# Altium schematic symbol library Digital Isolator.SchLib: 29 symbols
Pins are listed as number, name and electrical type; pins without a type are passive.

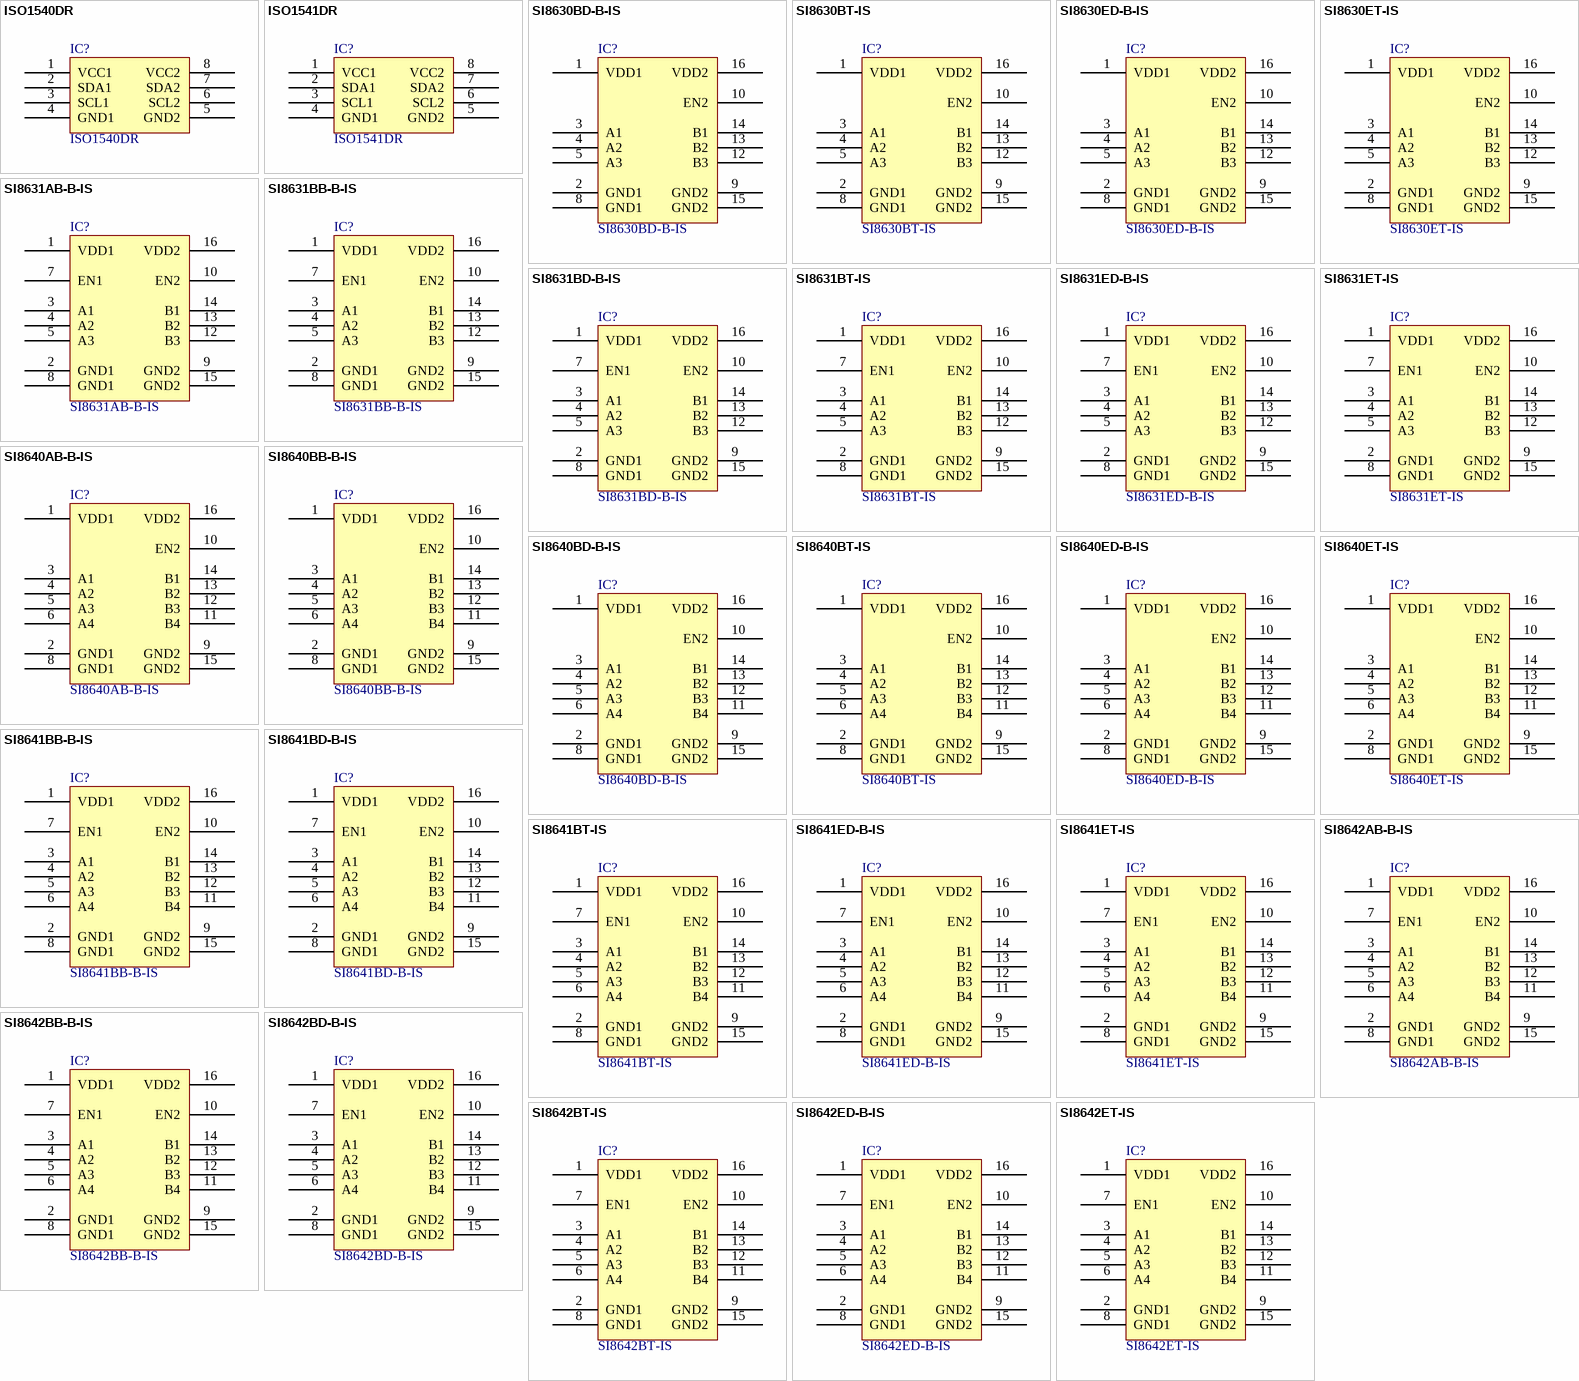
[diagram p0: symbols ISO1540DR to SI8642ET-IS]

## ISO1540DR
designator IC?
DGTL ISO 2.5KV 2CH I2C 8SOIC; Manufacturer: Texas Instruments; Isolated Power: No; Number of Channels: 2; Inputs - Side 1/Side2: 2/2; Channel Type: Bidirectional; Voltage - Isolation: 2500Vrms; Common Mode Transient Immunity (Min): 25kV/us; Data Rate: 1Mbps; Pulse Width Distortion (Max): 80ns, 21ns; Voltage - Supply: 3 V ~ 5.5 V; Part Number: ISO1540DR; PartId: 10912; Supplier 1: Digi-Key; Supplier Part Number 1: 296-34871-1-ND; ComponentLink1Description: Datasheet; ComponentLink1URL: http://www.ti.com/lit/ds/symlink/iso1540.pdf; ComponentLink2Description: Digi-Key Listing; ComponentLink2URL: http://www.digikey.ca/product-detail/en/texas-instruments/ISO1540DR/296-34871-1-ND/3587214; Price: 6.85; Type: IC; Device Package: 8-SOIC (0.154", 3.90mm Width); Operating Temperature: -40C ~ 125C; Technology: Capacitive Coupling; Propagation Delay tpLH/tpHL (Max): -; Rise / Fall Time (Typ): -
footprint TI SOIC-8 D
pins: 1 VCC1, 2 SDA1, 3 SCL1, 4 GND1, 5 GND2, 6 SCL2, 7 SDA2, 8 VCC2

## ISO1541DR
designator IC?
DGTL ISO 2.5KV 2CH I2C 8SOIC; Manufacturer: Texas Instruments; Isolated Power: No; Number of Channels: 2; Inputs - Side 1/Side2: 2/1; Channel Type: Bidirectional, Unidirectional; Voltage - Isolation: 2500Vrms; Common Mode Transient Immunity (Min): 25kV/us; Data Rate: 1Mbps; Pulse Width Distortion (Max): 80ns, 21ns; Voltage - Supply: 3 V ~ 5.5 V; Part Number: ISO1541DR; PartId: 10913; Supplier 1: Digi-Key; Supplier Part Number 1: 296-34872-1-ND; ComponentLink1Description: Datasheet; ComponentLink1URL: http://www.ti.com/lit/ds/symlink/iso1541.pdf; ComponentLink2Description: Digi-Key Listing; ComponentLink2URL: http://www.digikey.ca/product-detail/en/texas-instruments/ISO1541DR/296-34872-1-ND/3587215; Price: 6.17; Type: IC; Device Package: 8-SOIC (0.154", 3.90mm Width); Operating Temperature: -40C ~ 125C; Technology: Capacitive Coupling; Propagation Delay tpLH/tpHL (Max): -; Rise / Fall Time (Typ): -
footprint TI SOIC-8 D
pins: 1 VCC1, 2 SDA1, 3 SCL1, 4 GND1, 5 GND2, 6 SCL2, 7 SDA2, 8 VCC2

## SI8630BD-B-IS
designator IC?
DGTL ISO 5KV 3CH GEN PURP 16SOIC; Manufacturer: Silicon Labs; Isolated Power: No; Number of Channels: 3; Inputs - Side 1/Side2: 3/0; Channel Type: Unidirectional; Voltage - Isolation: 5000Vrms; Common Mode Transient Immunity (Min): 35kV/us; Data Rate: 150Mbps; Propagation Delay tpLH/tpHL (Max): 13ns, 13ns; Pulse Width Distortion (Max): 4.5ns; Rise / Fall Time (Typ): 2.5ns, 2.5ns; Voltage - Supply: 2.5 V ~ 5.5 V; Part Number: SI8630BD-B-IS; PartId: 14392; Supplier 1: Digi-Key; Supplier Part Number 1: 336-2073-5-ND; ComponentLink1Description: Datasheet; ComponentLink1URL: http://www.silabs.com/Support%20Documents/TechnicalDocs/Si863x.pdf; ComponentLink2Description: Digi-Key Listing; ComponentLink2URL: https://www.digikey.com/product-detail/en/silicon-labs/SI8630BD-B-IS/336-2073-5-ND/2623321; Price: 4.06; Type: General Purpose; Device Package: 16-SOIC (0.295", 7.50mm Width); Operating Temperature: -40C ~ 125C; Technology: Capacitive Coupling
footprint SI LABS SOIC-16 WIDE
pins: 1 VDD1, 2 GND1, 3 A1, 4 A2, 5 A3, 8 GND1, 9 GND2, 10 EN2, 12 B3, 13 B2, 14 B1, 15 GND2, 16 VDD2

## SI8630BT-IS
designator IC?
DGTL ISO 5KV 3CH GEN PURP 16SOIC; Manufacturer: Silicon Labs; Isolated Power: No; Number of Channels: 3; Inputs - Side 1/Side2: 3/0; Channel Type: Unidirectional; Voltage - Isolation: 5000Vrms; Common Mode Transient Immunity (Min): 60kV/us; Data Rate: 150Mbps; Propagation Delay tpLH/tpHL (Max): 13ns, 13ns; Pulse Width Distortion (Max): 4.5ns; Rise / Fall Time (Typ): 2.5ns, 2.5ns; Voltage - Supply: 2.5 V ~ 5.5 V; Part Number: SI8630BT-IS; PartId: 14393; Supplier 1: Digi-Key; Supplier Part Number 1: 336-3418-5-ND; ComponentLink1Description: Datasheet; ComponentLink1URL: http://www.silabs.com/Support%20Documents/TechnicalDocs/Si863x.pdf; ComponentLink2Description: Digi-Key Listing; ComponentLink2URL: https://www.digikey.com/product-detail/en/silicon-labs/SI8630BT-IS/336-3418-5-ND/5604305; Price: 4.34; Type: General Purpose; Device Package: 16-SOIC (0.295", 7.50mm Width); Operating Temperature: -40C ~ 125C; Technology: Capacitive Coupling
footprint SI LABS SOIC-16 WIDE
pins: 1 VDD1, 2 GND1, 3 A1, 4 A2, 5 A3, 8 GND1, 9 GND2, 10 EN2, 12 B3, 13 B2, 14 B1, 15 GND2, 16 VDD2

## SI8630ED-B-IS
designator IC?
DGTL ISO 5KV 3CH GEN PURP 16SOIC; Manufacturer: Silicon Labs; Isolated Power: No; Number of Channels: 3; Inputs - Side 1/Side2: 3/0; Channel Type: Unidirectional; Voltage - Isolation: 5000Vrms; Common Mode Transient Immunity (Min): 35kV/us; Data Rate: 150Mbps; Propagation Delay tpLH/tpHL (Max): 13ns, 13ns; Pulse Width Distortion (Max): 4.5ns; Rise / Fall Time (Typ): 2.5ns, 2.5ns; Voltage - Supply: 2.5 V ~ 5.5 V; Part Number: SI8630ED-B-IS; PartId: 14394; Supplier 1: Digi-Key; Supplier Part Number 1: 336-2075-5-ND; ComponentLink1Description: Datasheet; ComponentLink1URL: http://www.silabs.com/Support%20Documents/TechnicalDocs/Si863x.pdf; ComponentLink2Description: Digi-Key Listing; ComponentLink2URL: https://www.digikey.com/product-detail/en/silicon-labs/SI8630ED-B-IS/336-2075-5-ND/2623323; Price: 4.06; Type: General Purpose; Device Package: 16-SOIC (0.295", 7.50mm Width); Operating Temperature: -40C ~ 125C; Technology: Capacitive Coupling
footprint SI LABS SOIC-16 WIDE
pins: 1 VDD1, 2 GND1, 3 A1, 4 A2, 5 A3, 8 GND1, 9 GND2, 10 EN2, 12 B3, 13 B2, 14 B1, 15 GND2, 16 VDD2

## SI8630ET-IS
designator IC?
DGTL ISO 5KV 3CH GEN PURP 16SOIC; Manufacturer: Silicon Labs; Isolated Power: No; Number of Channels: 3; Inputs - Side 1/Side2: 3/0; Channel Type: Unidirectional; Voltage - Isolation: 5000Vrms; Common Mode Transient Immunity (Min): 60kV/us; Data Rate: 150Mbps; Propagation Delay tpLH/tpHL (Max): 13ns, 13ns; Pulse Width Distortion (Max): 4.5ns; Rise / Fall Time (Typ): 2.5ns, 2.5ns; Voltage - Supply: 2.5 V ~ 5.5 V; Part Number: SI8630ET-IS; PartId: 14395; Supplier 1: Digi-Key; Supplier Part Number 1: 336-3419-5-ND; ComponentLink1Description: Datasheet; ComponentLink1URL: http://www.silabs.com/Support%20Documents/TechnicalDocs/Si863x.pdf; ComponentLink2Description: Digi-Key Listing; ComponentLink2URL: https://www.digikey.com/product-detail/en/silicon-labs/SI8630ET-IS/336-3419-5-ND/5604306; Price: 4.34; Type: General Purpose; Device Package: 16-SOIC (0.295", 7.50mm Width); Operating Temperature: -40C ~ 125C; Technology: Capacitive Coupling
footprint SI LABS SOIC-16 WIDE
pins: 1 VDD1, 2 GND1, 3 A1, 4 A2, 5 A3, 8 GND1, 9 GND2, 10 EN2, 12 B3, 13 B2, 14 B1, 15 GND2, 16 VDD2

## SI8631AB-B-IS
designator IC?
DGTL ISO 2.5KV GEN PURP 16SOIC; Manufacturer: Silicon Labs; Isolated Power: No; Number of Channels: 3; Inputs - Side 1/Side2: 2/1; Channel Type: Unidirectional; Voltage - Isolation: 2500Vrms; Common Mode Transient Immunity (Min): 35kV/us; Data Rate: 1Mbps; Propagation Delay tpLH/tpHL (Max): 35ns, 35ns; Pulse Width Distortion (Max): 25ns; Rise / Fall Time (Typ): 2.5ns, 2.5ns; Voltage - Supply: 2.5 V ~ 5.5 V; Part Number: SI8631AB-B-IS; PartId: 14396; Supplier 1: Digi-Key; Supplier Part Number 1: SI8631AB-B-IS-ND; ComponentLink1Description: Datasheet; ComponentLink1URL: http://www.silabs.com/Support%20Documents/TechnicalDocs/Si86xx.pdf; ComponentLink2Description: Digi-Key Listing; ComponentLink2URL: https://www.digikey.com/product-detail/en/silicon-labs/SI8631AB-B-IS/SI8631AB-B-IS-ND/4576736; Price: 2.11; Type: General Purpose; Device Package: 16-SOIC (0.295", 7.50mm Width); Operating Temperature: -40C ~ 125C; Technology: Capacitive Coupling
footprint SI LABS SOIC-16 WIDE
pins: 1 VDD1, 2 GND1, 3 A1, 4 A2, 5 A3, 7 EN1, 8 GND1, 9 GND2, 10 EN2, 12 B3, 13 B2, 14 B1, 15 GND2, 16 VDD2

## SI8631BB-B-IS
designator IC?
DGTL ISO 2.5KV GEN PURP 16SOIC; Manufacturer: Silicon Labs; Isolated Power: No; Number of Channels: 3; Inputs - Side 1/Side2: 2/1; Channel Type: Unidirectional; Voltage - Isolation: 2500Vrms; Common Mode Transient Immunity (Min): 35kV/us; Data Rate: 150Mbps; Propagation Delay tpLH/tpHL (Max): 13ns, 13ns; Pulse Width Distortion (Max): 4.5ns; Rise / Fall Time (Typ): 2.5ns, 2.5ns; Voltage - Supply: 2.5 V ~ 5.5 V; Part Number: SI8631BB-B-IS; PartId: 14397; Supplier 1: Digi-Key; Supplier Part Number 1: 336-2571-ND; ComponentLink1Description: Datasheet; ComponentLink1URL: http://www.silabs.com/Support%20Documents/TechnicalDocs/Si863x.pdf; ComponentLink2Description: Digi-Key Listing; ComponentLink2URL: https://www.digikey.com/product-detail/en/silicon-labs/SI8631BB-B-IS/336-2571-ND/4379909; Price: 3.17; Type: General Purpose; Device Package: 16-SOIC (0.295", 7.50mm Width); Operating Temperature: -40C ~ 125C; Technology: Capacitive Coupling
footprint SI LABS SOIC-16 WIDE
pins: 1 VDD1, 2 GND1, 3 A1, 4 A2, 5 A3, 7 EN1, 8 GND1, 9 GND2, 10 EN2, 12 B3, 13 B2, 14 B1, 15 GND2, 16 VDD2

## SI8631BD-B-IS
designator IC?
DGTL ISO 5KV 3CH GEN PURP 16SOIC; Manufacturer: Silicon Labs; Isolated Power: No; Number of Channels: 3; Inputs - Side 1/Side2: 2/1; Channel Type: Unidirectional; Voltage - Isolation: 5000Vrms; Common Mode Transient Immunity (Min): 35kV/us; Data Rate: 150Mbps; Propagation Delay tpLH/tpHL (Max): 13ns, 13ns; Pulse Width Distortion (Max): 4.5ns; Rise / Fall Time (Typ): 2.5ns, 2.5ns; Voltage - Supply: 2.5 V ~ 5.5 V; Part Number: SI8631BD-B-IS; PartId: 14398; Supplier 1: Digi-Key; Supplier Part Number 1: 336-2077-5-ND; ComponentLink1Description: Datasheet; ComponentLink1URL: http://www.silabs.com/Support%20Documents/TechnicalDocs/Si863x.pdf; ComponentLink2Description: Digi-Key Listing; ComponentLink2URL: https://www.digikey.com/product-detail/en/silicon-labs/SI8631BD-B-IS/336-2077-5-ND/2623325; Price: 4.06; Type: General Purpose; Device Package: 16-SOIC (0.295", 7.50mm Width); Operating Temperature: -40C ~ 125C; Technology: Capacitive Coupling
footprint SI LABS SOIC-16 WIDE
pins: 1 VDD1, 2 GND1, 3 A1, 4 A2, 5 A3, 7 EN1, 8 GND1, 9 GND2, 10 EN2, 12 B3, 13 B2, 14 B1, 15 GND2, 16 VDD2

## SI8631BT-IS
designator IC?
DGTL ISO 5KV 3CH GEN PURP 16SOIC; Manufacturer: Silicon Labs; Isolated Power: No; Number of Channels: 3; Inputs - Side 1/Side2: 2/1; Channel Type: Unidirectional; Voltage - Isolation: 5000Vrms; Common Mode Transient Immunity (Min): 60kV/us; Data Rate: 150Mbps; Propagation Delay tpLH/tpHL (Max): 13ns, 13ns; Pulse Width Distortion (Max): 4.5ns; Rise / Fall Time (Typ): 2.5ns, 2.5ns; Voltage - Supply: 2.5 V ~ 5.5 V; Part Number: SI8631BT-IS; PartId: 14399; Supplier 1: Digi-Key; Supplier Part Number 1: 336-3420-5-ND; ComponentLink1Description: Datasheet; ComponentLink1URL: http://www.silabs.com/Support%20Documents/TechnicalDocs/Si863x.pdf; ComponentLink2Description: Digi-Key Listing; ComponentLink2URL: https://www.digikey.com/product-detail/en/silicon-labs/SI8631BT-IS/336-3420-5-ND/5604307; Price: 4.34; Type: General Purpose; Device Package: 16-SOIC (0.295", 7.50mm Width); Operating Temperature: -40C ~ 125C; Technology: Capacitive Coupling
footprint SI LABS SOIC-16 WIDE
pins: 1 VDD1, 2 GND1, 3 A1, 4 A2, 5 A3, 7 EN1, 8 GND1, 9 GND2, 10 EN2, 12 B3, 13 B2, 14 B1, 15 GND2, 16 VDD2

## SI8631ED-B-IS
designator IC?
DGTL ISO 5KV 3CH GEN PURP 16SOIC; Manufacturer: Silicon Labs; Isolated Power: No; Number of Channels: 3; Inputs - Side 1/Side2: 2/1; Channel Type: Unidirectional; Voltage - Isolation: 5000Vrms; Common Mode Transient Immunity (Min): 35kV/us; Data Rate: 150Mbps; Propagation Delay tpLH/tpHL (Max): 13ns, 13ns; Pulse Width Distortion (Max): 4.5ns; Rise / Fall Time (Typ): 2.5ns, 2.5ns; Voltage - Supply: 2.5 V ~ 5.5 V; Part Number: SI8631ED-B-IS; PartId: 14400; Supplier 1: Digi-Key; Supplier Part Number 1: 336-2079-5-ND; ComponentLink1Description: Datasheet; ComponentLink1URL: http://www.silabs.com/Support%20Documents/TechnicalDocs/Si863x.pdf; ComponentLink2Description: Digi-Key Listing; ComponentLink2URL: https://www.digikey.com/product-detail/en/silicon-labs/SI8631ED-B-IS/336-2079-5-ND/2623327; Price: 4.06; Type: General Purpose; Device Package: 16-SOIC (0.295", 7.50mm Width); Operating Temperature: -40C ~ 125C; Technology: Capacitive Coupling
footprint SI LABS SOIC-16 WIDE
pins: 1 VDD1, 2 GND1, 3 A1, 4 A2, 5 A3, 7 EN1, 8 GND1, 9 GND2, 10 EN2, 12 B3, 13 B2, 14 B1, 15 GND2, 16 VDD2

## SI8631ET-IS
designator IC?
DGTL ISO 5KV 3CH GEN PURP 16SOIC; Manufacturer: Silicon Labs; Isolated Power: No; Number of Channels: 3; Inputs - Side 1/Side2: 2/1; Channel Type: Unidirectional; Voltage - Isolation: 5000Vrms; Common Mode Transient Immunity (Min): 60kV/us; Data Rate: 150Mbps; Propagation Delay tpLH/tpHL (Max): 13ns, 13ns; Pulse Width Distortion (Max): 4.5ns; Rise / Fall Time (Typ): 2.5ns, 2.5ns; Voltage - Supply: 2.5 V ~ 5.5 V; Part Number: SI8631ET-IS; PartId: 14401; Supplier 1: Digi-Key; Supplier Part Number 1: 336-3421-5-ND; ComponentLink1Description: Datasheet; ComponentLink1URL: http://www.silabs.com/Support%20Documents/TechnicalDocs/Si863x.pdf; ComponentLink2Description: Digi-Key Listing; ComponentLink2URL: https://www.digikey.com/product-detail/en/silicon-labs/SI8631ET-IS/336-3421-5-ND/5604308; Price: 4.34; Type: General Purpose; Device Package: 16-SOIC (0.295", 7.50mm Width); Operating Temperature: -40C ~ 125C; Technology: Capacitive Coupling
footprint SI LABS SOIC-16 WIDE
pins: 1 VDD1, 2 GND1, 3 A1, 4 A2, 5 A3, 7 EN1, 8 GND1, 9 GND2, 10 EN2, 12 B3, 13 B2, 14 B1, 15 GND2, 16 VDD2

## SI8640AB-B-IS
designator IC?
DGTL ISO 2.5KV GEN PURP 16SOIC; Manufacturer: Silicon Labs; Isolated Power: No; Number of Channels: 4; Inputs - Side 1/Side2: 4/0; Channel Type: Unidirectional; Voltage - Isolation: 2500Vrms; Common Mode Transient Immunity (Min): 35kV/us; Data Rate: 1Mbps; Propagation Delay tpLH/tpHL (Max): 35ns, 35ns; Pulse Width Distortion (Max): 25ns; Rise / Fall Time (Typ): 2.5ns, 2.5ns; Voltage - Supply: 2.5 V ~ 5.5 V; Part Number: SI8640AB-B-IS; PartId: 14402; Supplier 1: Digi-Key; Supplier Part Number 1: SI8640AB-B-IS-ND; ComponentLink1Description: Datasheet; ComponentLink1URL: http://www.silabs.com/Support%20Documents/TechnicalDocs/Si86xx.pdf; ComponentLink2Description: Digi-Key Listing; ComponentLink2URL: https://www.digikey.com/product-detail/en/silicon-labs/SI8640AB-B-IS/SI8640AB-B-IS-ND/4576739; Price: 2.62; Type: General Purpose; Device Package: 16-SOIC (0.295", 7.50mm Width); Operating Temperature: -40C ~ 125C; Technology: Capacitive Coupling
footprint SI LABS SOIC-16 WIDE
pins: 1 VDD1, 2 GND1, 3 A1, 4 A2, 5 A3, 6 A4, 8 GND1, 9 GND2, 10 EN2, 11 B4, 12 B3, 13 B2, 14 B1, 15 GND2, 16 VDD2

## SI8640BB-B-IS
designator IC?
DGTL ISO 2.5KV GEN PURP 16SOIC; Manufacturer: Silicon Labs; Isolated Power: No; Number of Channels: 4; Inputs - Side 1/Side2: 4/0; Channel Type: Unidirectional; Voltage - Isolation: 2500Vrms; Common Mode Transient Immunity (Min): 35kV/us; Data Rate: 150Mbps; Propagation Delay tpLH/tpHL (Max): 13ns, 13ns; Pulse Width Distortion (Max): 4.5ns; Rise / Fall Time (Typ): 2.5ns, 2.5ns; Voltage - Supply: 2.5 V ~ 5.5 V; Part Number: SI8640BB-B-IS; PartId: 14403; Supplier 1: Digi-Key; Supplier Part Number 1: SI8640BB-B-IS-ND; ComponentLink1Description: Datasheet; ComponentLink1URL: http://www.silabs.com/Support%20Documents/TechnicalDocs/Si864x.pdf; ComponentLink2Description: Digi-Key Listing; ComponentLink2URL: https://www.digikey.com/product-detail/en/silicon-labs/SI8640BB-B-IS/SI8640BB-B-IS-ND/4576741; Price: 3.81; Type: General Purpose; Device Package: 16-SOIC (0.295", 7.50mm Width); Operating Temperature: -40C ~ 125C; Technology: Capacitive Coupling
footprint SI LABS SOIC-16 WIDE
pins: 1 VDD1, 2 GND1, 3 A1, 4 A2, 5 A3, 6 A4, 8 GND1, 9 GND2, 10 EN2, 11 B4, 12 B3, 13 B2, 14 B1, 15 GND2, 16 VDD2

## SI8640BD-B-IS
designator IC?
DGTL ISO 5KV 4CH GEN PURP 16SOIC; Manufacturer: Silicon Labs; Isolated Power: No; Number of Channels: 4; Inputs - Side 1/Side2: 4/0; Channel Type: Unidirectional; Voltage - Isolation: 5000Vrms; Common Mode Transient Immunity (Min): 35kV/us; Data Rate: 150Mbps; Propagation Delay tpLH/tpHL (Max): 13ns, 13ns; Pulse Width Distortion (Max): 4.5ns; Rise / Fall Time (Typ): 2.5ns, 2.5ns; Voltage - Supply: 2.5 V ~ 5.5 V; Part Number: SI8640BD-B-IS; PartId: 14404; Supplier 1: Digi-Key; Supplier Part Number 1: 336-2083-5-ND; ComponentLink1Description: Datasheet; ComponentLink1URL: http://www.silabs.com/Support%20Documents/TechnicalDocs/Si864x.pdf; ComponentLink2Description: Digi-Key Listing; ComponentLink2URL: https://www.digikey.com/product-detail/en/silicon-labs/SI8640BD-B-IS/336-2083-5-ND/2623331; Price: 5.01; Type: General Purpose; Device Package: 16-SOIC (0.295", 7.50mm Width); Operating Temperature: -40C ~ 125C; Technology: Capacitive Coupling
footprint SI LABS SOIC-16 WIDE
pins: 1 VDD1, 2 GND1, 3 A1, 4 A2, 5 A3, 6 A4, 8 GND1, 9 GND2, 10 EN2, 11 B4, 12 B3, 13 B2, 14 B1, 15 GND2, 16 VDD2

## SI8640BT-IS
designator IC?
DGTL ISO 5KV 4CH GEN PURP 16SOIC; Manufacturer: Silicon Labs; Isolated Power: No; Number of Channels: 4; Inputs - Side 1/Side2: 4/0; Channel Type: Unidirectional; Voltage - Isolation: 5000Vrms; Common Mode Transient Immunity (Min): 60kV/us; Data Rate: 150Mbps; Propagation Delay tpLH/tpHL (Max): 13ns, 13ns; Pulse Width Distortion (Max): 4.5ns; Rise / Fall Time (Typ): 2.5ns, 2.5ns; Voltage - Supply: 2.5 V ~ 5.5 V; Part Number: SI8640BT-IS; PartId: 14405; Supplier 1: Digi-Key; Supplier Part Number 1: 336-3424-5-ND; ComponentLink1Description: Datasheet; ComponentLink1URL: http://www.silabs.com/Support%20Documents/TechnicalDocs/Si864x.pdf; ComponentLink2Description: Digi-Key Listing; ComponentLink2URL: https://www.digikey.com/product-detail/en/silicon-labs/SI8640BT-IS/336-3424-5-ND/5604311; Price: 5.87; Type: General Purpose; Device Package: 16-SOIC (0.295", 7.50mm Width); Operating Temperature: -40C ~ 125C; Technology: Capacitive Coupling
footprint SI LABS SOIC-16 WIDE
pins: 1 VDD1, 2 GND1, 3 A1, 4 A2, 5 A3, 6 A4, 8 GND1, 9 GND2, 10 EN2, 11 B4, 12 B3, 13 B2, 14 B1, 15 GND2, 16 VDD2

## SI8640ED-B-IS
designator IC?
DGTL ISO 5KV 4CH GEN PURP 16SOIC; Manufacturer: Silicon Labs; Isolated Power: No; Number of Channels: 4; Inputs - Side 1/Side2: 4/0; Channel Type: Unidirectional; Voltage - Isolation: 5000Vrms; Common Mode Transient Immunity (Min): 35kV/us; Data Rate: 150Mbps; Propagation Delay tpLH/tpHL (Max): 13ns, 13ns; Pulse Width Distortion (Max): 4.5ns; Rise / Fall Time (Typ): 2.5ns, 2.5ns; Voltage - Supply: 2.5 V ~ 5.5 V; Part Number: SI8640ED-B-IS; PartId: 14406; Supplier 1: Digi-Key; Supplier Part Number 1: 336-2085-5-ND; ComponentLink1Description: Datasheet; ComponentLink1URL: http://www.silabs.com/Support%20Documents/TechnicalDocs/Si864x.pdf; ComponentLink2Description: Digi-Key Listing; ComponentLink2URL: https://www.digikey.com/product-detail/en/silicon-labs/SI8640ED-B-IS/336-2085-5-ND/2623333; Price: 5.01; Type: General Purpose; Device Package: 16-SOIC (0.295", 7.50mm Width); Operating Temperature: -40C ~ 125C; Technology: Capacitive Coupling
footprint SI LABS SOIC-16 WIDE
pins: 1 VDD1, 2 GND1, 3 A1, 4 A2, 5 A3, 6 A4, 8 GND1, 9 GND2, 10 EN2, 11 B4, 12 B3, 13 B2, 14 B1, 15 GND2, 16 VDD2

## SI8640ET-IS
designator IC?
DGTL ISO 5KV 4CH GEN PURP 16SOIC; Manufacturer: Silicon Labs; Isolated Power: No; Number of Channels: 4; Inputs - Side 1/Side2: 4/0; Channel Type: Unidirectional; Voltage - Isolation: 5000Vrms; Common Mode Transient Immunity (Min): 60kV/us; Data Rate: 150Mbps; Propagation Delay tpLH/tpHL (Max): 13ns, 13ns; Pulse Width Distortion (Max): 4.5ns; Rise / Fall Time (Typ): 2.5ns, 2.5ns; Voltage - Supply: 2.5 V ~ 5.5 V; Part Number: SI8640ET-IS; PartId: 14407; Supplier 1: Digi-Key; Supplier Part Number 1: 336-3425-5-ND; ComponentLink1Description: Datasheet; ComponentLink1URL: http://www.silabs.com/Support%20Documents/TechnicalDocs/Si864x.pdf; ComponentLink2Description: Digi-Key Listing; ComponentLink2URL: https://www.digikey.com/product-detail/en/silicon-labs/SI8640ET-IS/336-3425-5-ND/5604312; Price: 5.87; Type: General Purpose; Device Package: 16-SOIC (0.295", 7.50mm Width); Operating Temperature: -40C ~ 125C; Technology: Capacitive Coupling
footprint SI LABS SOIC-16 WIDE
pins: 1 VDD1, 2 GND1, 3 A1, 4 A2, 5 A3, 6 A4, 8 GND1, 9 GND2, 10 EN2, 11 B4, 12 B3, 13 B2, 14 B1, 15 GND2, 16 VDD2

## SI8641BB-B-IS
designator IC?
DGTL ISO 2.5KV GEN PURP 16SOIC; Manufacturer: Silicon Labs; Isolated Power: No; Number of Channels: 4; Inputs - Side 1/Side2: 3/1; Channel Type: Unidirectional; Voltage - Isolation: 2500Vrms; Common Mode Transient Immunity (Min): 35kV/us; Data Rate: 150Mbps; Propagation Delay tpLH/tpHL (Max): 13ns, 13ns; Pulse Width Distortion (Max): 4.5ns; Rise / Fall Time (Typ): 2.5ns, 2.5ns; Voltage - Supply: 2.5 V ~ 5.5 V; Part Number: SI8641BB-B-IS; PartId: 14408; Supplier 1: Digi-Key; Supplier Part Number 1: SI8641BB-B-IS-ND; ComponentLink1Description: Datasheet; ComponentLink1URL: http://www.silabs.com/Support%20Documents/TechnicalDocs/Si864x.pdf; ComponentLink2Description: Digi-Key Listing; ComponentLink2URL: https://www.digikey.com/product-detail/en/silicon-labs/SI8641BB-B-IS/SI8641BB-B-IS-ND/4576743; Price: 3.81; Type: General Purpose; Device Package: 16-SOIC (0.295", 7.50mm Width); Operating Temperature: -40C ~ 125C; Technology: Capacitive Coupling
footprint SI LABS SOIC-16 WIDE
pins: 1 VDD1, 2 GND1, 3 A1, 4 A2, 5 A3, 6 A4, 7 EN1, 8 GND1, 9 GND2, 10 EN2, 11 B4, 12 B3, 13 B2, 14 B1, 15 GND2, 16 VDD2

## SI8641BD-B-IS
designator IC?
DGTL ISO 5KV 4CH GEN PURP 16SOIC; Manufacturer: Silicon Labs; Isolated Power: No; Number of Channels: 4; Inputs - Side 1/Side2: 3/1; Channel Type: Unidirectional; Voltage - Isolation: 5000Vrms; Common Mode Transient Immunity (Min): 35kV/us; Data Rate: 150Mbps; Propagation Delay tpLH/tpHL (Max): 13ns, 13ns; Pulse Width Distortion (Max): 4.5ns; Rise / Fall Time (Typ): 2.5ns, 2.5ns; Voltage - Supply: 2.5 V ~ 5.5 V; Part Number: SI8641BD-B-IS; PartId: 14409; Supplier 1: Digi-Key; Supplier Part Number 1: 336-2088-5-ND; ComponentLink1Description: Datasheet; ComponentLink1URL: http://www.silabs.com/Support%20Documents/TechnicalDocs/Si864x.pdf; ComponentLink2Description: Digi-Key Listing; ComponentLink2URL: https://www.digikey.com/product-detail/en/silicon-labs/SI8641BD-B-IS/336-2088-5-ND/2623336; Price: 5.01; Type: General Purpose; Device Package: 16-SOIC (0.295", 7.50mm Width); Operating Temperature: -40C ~ 125C; Technology: Capacitive Coupling
footprint SI LABS SOIC-16 WIDE
pins: 1 VDD1, 2 GND1, 3 A1, 4 A2, 5 A3, 6 A4, 7 EN1, 8 GND1, 9 GND2, 10 EN2, 11 B4, 12 B3, 13 B2, 14 B1, 15 GND2, 16 VDD2

## SI8641BT-IS
designator IC?
DGTL ISO 5KV 4CH GEN PURP 16SOIC; Manufacturer: Silicon Labs; Isolated Power: No; Number of Channels: 4; Inputs - Side 1/Side2: 3/1; Channel Type: Unidirectional; Voltage - Isolation: 5000Vrms; Common Mode Transient Immunity (Min): 60kV/us; Data Rate: 150Mbps; Propagation Delay tpLH/tpHL (Max): 13ns, 13ns; Pulse Width Distortion (Max): 4.5ns; Rise / Fall Time (Typ): 2.5ns, 2.5ns; Voltage - Supply: 2.5 V ~ 5.5 V; Part Number: SI8641BT-IS; PartId: 14410; Supplier 1: Digi-Key; Supplier Part Number 1: 336-3426-5-ND; ComponentLink1Description: Datasheet; ComponentLink1URL: http://www.silabs.com/Support%20Documents/TechnicalDocs/Si864x.pdf; ComponentLink2Description: Digi-Key Listing; ComponentLink2URL: https://www.digikey.com/product-detail/en/silicon-labs/SI8641BT-IS/336-3426-5-ND/5604313; Price: 5.87; Type: General Purpose; Device Package: 16-SOIC (0.295", 7.50mm Width); Operating Temperature: -40C ~ 125C; Technology: Capacitive Coupling
footprint SI LABS SOIC-16 WIDE
pins: 1 VDD1, 2 GND1, 3 A1, 4 A2, 5 A3, 6 A4, 7 EN1, 8 GND1, 9 GND2, 10 EN2, 11 B4, 12 B3, 13 B2, 14 B1, 15 GND2, 16 VDD2

## SI8641ED-B-IS
designator IC?
DGTL ISO 5KV 4CH GEN PURP 16SOIC; Manufacturer: Silicon Labs; Isolated Power: No; Number of Channels: 4; Inputs - Side 1/Side2: 3/1; Channel Type: Unidirectional; Voltage - Isolation: 5000Vrms; Common Mode Transient Immunity (Min): 35kV/us; Data Rate: 150Mbps; Propagation Delay tpLH/tpHL (Max): 13ns, 13ns; Pulse Width Distortion (Max): 4.5ns; Rise / Fall Time (Typ): 2.5ns, 2.5ns; Voltage - Supply: 2.5 V ~ 5.5 V; Part Number: SI8641ED-B-IS; PartId: 14411; Supplier 1: Digi-Key; Supplier Part Number 1: 336-2090-5-ND; ComponentLink1Description: Datasheet; ComponentLink1URL: http://www.silabs.com/Support%20Documents/TechnicalDocs/Si864x.pdf; ComponentLink2Description: Digi-Key Listing; ComponentLink2URL: https://www.digikey.com/product-detail/en/silicon-labs/SI8641ED-B-IS/336-2090-5-ND/2623338; Price: 5.01; Type: General Purpose; Device Package: 16-SOIC (0.295", 7.50mm Width); Operating Temperature: -40C ~ 125C; Technology: Capacitive Coupling
footprint SI LABS SOIC-16 WIDE
pins: 1 VDD1, 2 GND1, 3 A1, 4 A2, 5 A3, 6 A4, 7 EN1, 8 GND1, 9 GND2, 10 EN2, 11 B4, 12 B3, 13 B2, 14 B1, 15 GND2, 16 VDD2

## SI8641ET-IS
designator IC?
DGTL ISO 5KV 4CH GEN PURP 16SOIC; Manufacturer: Silicon Labs; Isolated Power: No; Number of Channels: 4; Inputs - Side 1/Side2: 3/1; Channel Type: Unidirectional; Voltage - Isolation: 5000Vrms; Common Mode Transient Immunity (Min): 60kV/us; Data Rate: 150Mbps; Propagation Delay tpLH/tpHL (Max): 13ns, 13ns; Pulse Width Distortion (Max): 4.5ns; Rise / Fall Time (Typ): 2.5ns, 2.5ns; Voltage - Supply: 2.5 V ~ 5.5 V; Part Number: SI8641ET-IS; PartId: 14412; Supplier 1: Digi-Key; Supplier Part Number 1: 336-3427-5-ND; ComponentLink1Description: Datasheet; ComponentLink1URL: http://www.silabs.com/Support%20Documents/TechnicalDocs/Si864x.pdf; ComponentLink2Description: Digi-Key Listing; ComponentLink2URL: https://www.digikey.com/product-detail/en/silicon-labs/SI8641ET-IS/336-3427-5-ND/5604314; Price: 5.87; Type: General Purpose; Device Package: 16-SOIC (0.295", 7.50mm Width); Operating Temperature: -40C ~ 125C; Technology: Capacitive Coupling
footprint SI LABS SOIC-16 WIDE
pins: 1 VDD1, 2 GND1, 3 A1, 4 A2, 5 A3, 6 A4, 7 EN1, 8 GND1, 9 GND2, 10 EN2, 11 B4, 12 B3, 13 B2, 14 B1, 15 GND2, 16 VDD2

## SI8642AB-B-IS
designator IC?
DGTL ISO 2.5KV GEN PURP 16SOIC; Manufacturer: Silicon Labs; Isolated Power: No; Number of Channels: 4; Inputs - Side 1/Side2: 2/2; Channel Type: Unidirectional; Voltage - Isolation: 2500Vrms; Common Mode Transient Immunity (Min): 35kV/us; Data Rate: 1Mbps; Propagation Delay tpLH/tpHL (Max): 35ns, 35ns; Pulse Width Distortion (Max): 25ns; Rise / Fall Time (Typ): 2.5ns, 2.5ns; Voltage - Supply: 2.5 V ~ 5.5 V; Part Number: SI8642AB-B-IS; PartId: 14413; Supplier 1: Digi-Key; Supplier Part Number 1: SI8642AB-B-IS-ND; ComponentLink1Description: Datasheet; ComponentLink1URL: http://www.silabs.com/Support%20Documents/TechnicalDocs/Si86xx.pdf; ComponentLink2Description: Digi-Key Listing; ComponentLink2URL: https://www.digikey.com/product-detail/en/silicon-labs/SI8642AB-B-IS/SI8642AB-B-IS-ND/4576744; Price: 2.62; Type: General Purpose; Device Package: 16-SOIC (0.295", 7.50mm Width); Operating Temperature: -40C ~ 125C; Technology: Capacitive Coupling
footprint SI LABS SOIC-16 WIDE
pins: 1 VDD1, 2 GND1, 3 A1, 4 A2, 5 A3, 6 A4, 7 EN1, 8 GND1, 9 GND2, 10 EN2, 11 B4, 12 B3, 13 B2, 14 B1, 15 GND2, 16 VDD2

## SI8642BB-B-IS
designator IC?
DGTL ISO 2.5KV GEN PURP 16SOIC; Manufacturer: Silicon Labs; Isolated Power: No; Number of Channels: 4; Inputs - Side 1/Side2: 2/2; Channel Type: Unidirectional; Voltage - Isolation: 2500Vrms; Common Mode Transient Immunity (Min): 35kV/us; Data Rate: 150Mbps; Propagation Delay tpLH/tpHL (Max): 13ns, 13ns; Pulse Width Distortion (Max): 4.5ns; Rise / Fall Time (Typ): 2.5ns, 2.5ns; Voltage - Supply: 2.5 V ~ 5.5 V; Part Number: SI8642BB-B-IS; PartId: 14414; Supplier 1: Digi-Key; Supplier Part Number 1: SI8642BB-B-IS-ND; ComponentLink1Description: Datasheet; ComponentLink1URL: http://www.silabs.com/Support%20Documents/TechnicalDocs/Si864x.pdf; ComponentLink2Description: Digi-Key Listing; ComponentLink2URL: https://www.digikey.com/product-detail/en/silicon-labs/SI8642BB-B-IS/SI8642BB-B-IS-ND/4576746; Price: 3.81; Type: General Purpose; Device Package: 16-SOIC (0.295", 7.50mm Width); Operating Temperature: -40C ~ 125C; Technology: Capacitive Coupling
footprint SI LABS SOIC-16 WIDE
pins: 1 VDD1, 2 GND1, 3 A1, 4 A2, 5 A3, 6 A4, 7 EN1, 8 GND1, 9 GND2, 10 EN2, 11 B4, 12 B3, 13 B2, 14 B1, 15 GND2, 16 VDD2

## SI8642BD-B-IS
designator IC?
DGTL ISO 5KV 4CH GEN PURP 16SOIC; Manufacturer: Silicon Labs; Isolated Power: No; Number of Channels: 4; Inputs - Side 1/Side2: 2/2; Channel Type: Unidirectional; Voltage - Isolation: 5000Vrms; Common Mode Transient Immunity (Min): 35kV/us; Data Rate: 150Mbps; Propagation Delay tpLH/tpHL (Max): 13ns, 13ns; Pulse Width Distortion (Max): 4.5ns; Rise / Fall Time (Typ): 2.5ns, 2.5ns; Voltage - Supply: 2.5 V ~ 5.5 V; Part Number: SI8642BD-B-IS; PartId: 14415; Supplier 1: Digi-Key; Supplier Part Number 1: 336-2093-5-ND; ComponentLink1Description: Datasheet; ComponentLink1URL: http://www.silabs.com/Support%20Documents/TechnicalDocs/Si864x.pdf; ComponentLink2Description: Digi-Key Listing; ComponentLink2URL: https://www.digikey.com/product-detail/en/silicon-labs/SI8642BD-B-IS/336-2093-5-ND/2623341; Price: 5.01; Type: General Purpose; Device Package: 16-SOIC (0.295", 7.50mm Width); Operating Temperature: -40C ~ 125C; Technology: Capacitive Coupling
footprint SI LABS SOIC-16 WIDE
pins: 1 VDD1, 2 GND1, 3 A1, 4 A2, 5 A3, 6 A4, 7 EN1, 8 GND1, 9 GND2, 10 EN2, 11 B4, 12 B3, 13 B2, 14 B1, 15 GND2, 16 VDD2

## SI8642BT-IS
designator IC?
DGTL ISO 5KV 4CH GEN PURP 16SOIC; Manufacturer: Silicon Labs; Isolated Power: No; Number of Channels: 4; Inputs - Side 1/Side2: 2/2; Channel Type: Unidirectional; Voltage - Isolation: 5000Vrms; Common Mode Transient Immunity (Min): 60kV/us; Data Rate: 150Mbps; Propagation Delay tpLH/tpHL (Max): 13ns, 13ns; Pulse Width Distortion (Max): 4.5ns; Rise / Fall Time (Typ): 2.5ns, 2.5ns; Voltage - Supply: 2.5 V ~ 5.5 V; Part Number: SI8642BT-IS; PartId: 14416; Supplier 1: Digi-Key; Supplier Part Number 1: 336-3428-5-ND; ComponentLink1Description: Datasheet; ComponentLink1URL: http://www.silabs.com/Support%20Documents/TechnicalDocs/Si864x.pdf; ComponentLink2Description: Digi-Key Listing; ComponentLink2URL: https://www.digikey.com/product-detail/en/silicon-labs/SI8642BT-IS/336-3428-5-ND/5604315; Price: 5.87; Type: General Purpose; Device Package: 16-SOIC (0.295", 7.50mm Width); Operating Temperature: -40C ~ 125C; Technology: Capacitive Coupling
footprint SI LABS SOIC-16 WIDE
pins: 1 VDD1, 2 GND1, 3 A1, 4 A2, 5 A3, 6 A4, 7 EN1, 8 GND1, 9 GND2, 10 EN2, 11 B4, 12 B3, 13 B2, 14 B1, 15 GND2, 16 VDD2

## SI8642ED-B-IS
designator IC?
DGTL ISO 5KV 4CH GEN PURP 16SOIC; Manufacturer: Silicon Labs; Isolated Power: No; Number of Channels: 4; Inputs - Side 1/Side2: 2/2; Channel Type: Unidirectional; Voltage - Isolation: 5000Vrms; Common Mode Transient Immunity (Min): 35kV/us; Data Rate: 150Mbps; Propagation Delay tpLH/tpHL (Max): 13ns, 13ns; Pulse Width Distortion (Max): 4.5ns; Rise / Fall Time (Typ): 2.5ns, 2.5ns; Voltage - Supply: 2.5 V ~ 5.5 V; Part Number: SI8642ED-B-IS; PartId: 14417; Supplier 1: Digi-Key; Supplier Part Number 1: 336-2095-5-ND; ComponentLink1Description: Datasheet; ComponentLink1URL: http://www.silabs.com/Support%20Documents/TechnicalDocs/Si864x.pdf; ComponentLink2Description: Digi-Key Listing; ComponentLink2URL: https://www.digikey.com/product-detail/en/silicon-labs/SI8642ED-B-IS/336-2095-5-ND/2623343; Price: 5.01; Type: General Purpose; Device Package: 16-SOIC (0.295", 7.50mm Width); Operating Temperature: -40C ~ 125C; Technology: Capacitive Coupling
footprint SI LABS SOIC-16 WIDE
pins: 1 VDD1, 2 GND1, 3 A1, 4 A2, 5 A3, 6 A4, 7 EN1, 8 GND1, 9 GND2, 10 EN2, 11 B4, 12 B3, 13 B2, 14 B1, 15 GND2, 16 VDD2

## SI8642ET-IS
designator IC?
DGTL ISO 5KV 4CH GEN PURP 16SOIC; Manufacturer: Silicon Labs; Isolated Power: No; Number of Channels: 4; Inputs - Side 1/Side2: 2/2; Channel Type: Unidirectional; Voltage - Isolation: 5000Vrms; Common Mode Transient Immunity (Min): 60kV/us; Data Rate: 150Mbps; Propagation Delay tpLH/tpHL (Max): 13ns, 13ns; Pulse Width Distortion (Max): 4.5ns; Rise / Fall Time (Typ): 2.5ns, 2.5ns; Voltage - Supply: 2.5 V ~ 5.5 V; Part Number: SI8642ET-IS; PartId: 14418; Supplier 1: Digi-Key; Supplier Part Number 1: 336-3429-5-ND; ComponentLink1Description: Datasheet; ComponentLink1URL: http://www.silabs.com/Support%20Documents/TechnicalDocs/Si864x.pdf; ComponentLink2Description: Digi-Key Listing; ComponentLink2URL: https://www.digikey.com/product-detail/en/silicon-labs/SI8642ET-IS/336-3429-5-ND/5604316; Price: 5.87; Type: General Purpose; Device Package: 16-SOIC (0.295", 7.50mm Width); Operating Temperature: -40C ~ 125C; Technology: Capacitive Coupling
footprint SI LABS SOIC-16 WIDE
pins: 1 VDD1, 2 GND1, 3 A1, 4 A2, 5 A3, 6 A4, 7 EN1, 8 GND1, 9 GND2, 10 EN2, 11 B4, 12 B3, 13 B2, 14 B1, 15 GND2, 16 VDD2